# Altium footprint library B82559B7103A027.PcbLib: 1 footprints
Each footprint in its own frame and in the unit in brackets; x right, y up, seen from the top. Pads: shape width x height; smd on the part's side, far side on the other; paste and mask are expansions set on the pad; w line width, h text height; cw(c..) or ccw(c..) is an arc to the next point about the centre after c.
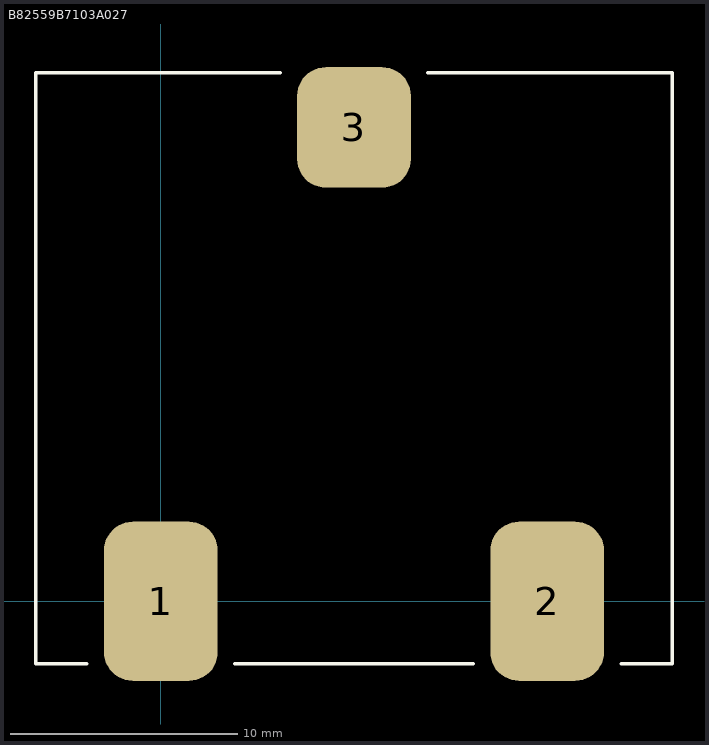
[diagram p0: the footprint, top view; thin cyan lines are the x and y axes]

## B82559B7103A027 [mm]
pads (3):
  rrect50% 5x7 smd: 1(0,0) 2(17,0)
  rrect50% 5x5.3 smd: 3(8.5,20.85)
Top Overlay:
  lines w0.15: -3.25,-2.75 -5.5,-2.75 -5.5,23.25 5.25,23.25 ; 3.25,-2.75 13.75,-2.75 ; 11.75,23.25 22.5,23.25 22.5,-2.75 20.25,-2.75
3D body "B82559B7103A027.STEP": height 17, standoff 0, extent -5.4,-2.65 22.4,23.15